# EAGLE library part BNO055 (library BNO055)
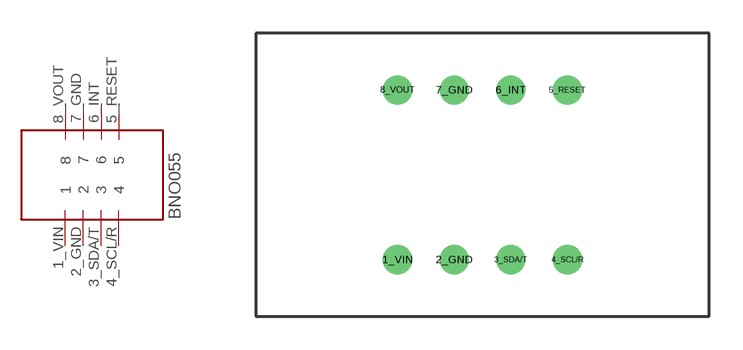
[diagram p0: symbol with the pads of BNO055; footprint BNO055]

Designator prefix -

## BNO055  [BNO055]
1_VIN  1
2_GND  2
3_SDA/T  3
4_SCL/R  4
5_RESET  5
6_INT  6
7_GND  7
8_VOUT  8

## Footprint BNO055 (pad centres in mm)
drill 0.8: 1_VIN 6.35,1.27; 2_GND 8.89,1.27; 3_SDA/T 11.43,1.27; 4_SCL/R 13.97,1.27; 5_RESET 13.97,8.89; 6_INT 11.43,8.89; 7_GND 8.89,8.89; 8_VOUT 6.35,8.89